# Altium footprint library resistor1206(footprint).PcbLib: 1 footprints
Each footprint in its own frame and in the unit in brackets; x right, y up, seen from the top. Pads: shape width x height; smd on the part's side, far side on the other; paste and mask are expansions set on the pad; w line width, h text height; cw(c..) or ccw(c..) is an arc to the next point about the centre after c.
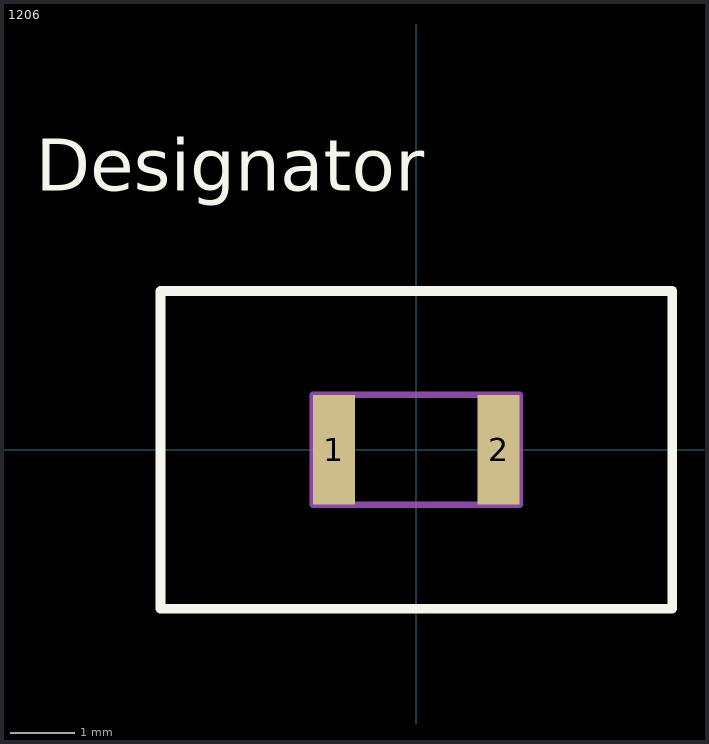
[diagram p0: the footprint, top view; thin cyan lines are the x and y axes]

## 1206 [mm]
pads (2):
  rect 0.65x1.7 smd: 1(-1.275,0) 2(1.275,0)
Top Overlay:
  lines w0.152: -3.96,-2.46 3.96,-2.46 3.96,2.46 -3.96,2.46 -3.96,-2.46
  text "Designator" at -5.89,4.007 h0.8
Mechanical 13:
  lines w0.102: -1.6,-0.85 1.6,-0.85 1.6,0.85 -1.6,0.85 -1.6,-0.85